# EAGLE library part 53048-1510 (library con-molex-picoblade)
HEADER
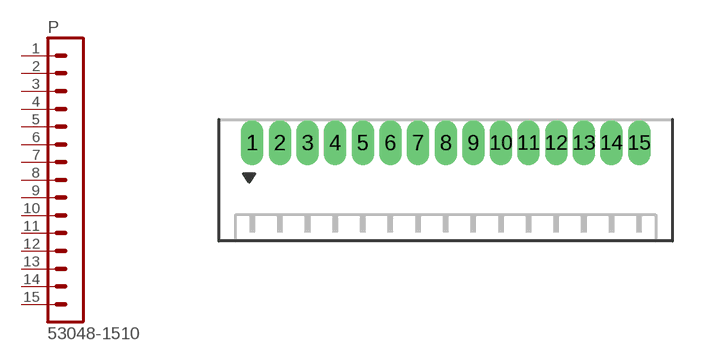
[diagram p19: symbol with the pads of 53048-1510; footprint 53048-1510]

Designator prefix P

## 53048-1510  [53048-1510]
1  1  pas
2  2  pas
3  3  pas
4  4  pas
5  5  pas
6  6  pas
7  7  pas
8  8  pas
9  9  pas
10  10  pas
11  11  pas
12  12  pas
13  13  pas
14  14  pas
15  15  pas

## Footprint 53048-1510 (pad centres in mm)
HEADER
drill 0.508 long: 1 -8.75,0; 2 -7.5,0; 3 -6.25,0; 4 -5,0; 5 -3.75,0; 6 -2.5,0; 7 -1.25,0; 8 0,0; 9 1.25,0; 10 2.5,0; 11 3.75,0; 12 5,0; 13 6.25,0; 14 7.5,0; 15 8.75,0